# EAGLE library part 74*244 (library gost_micro)
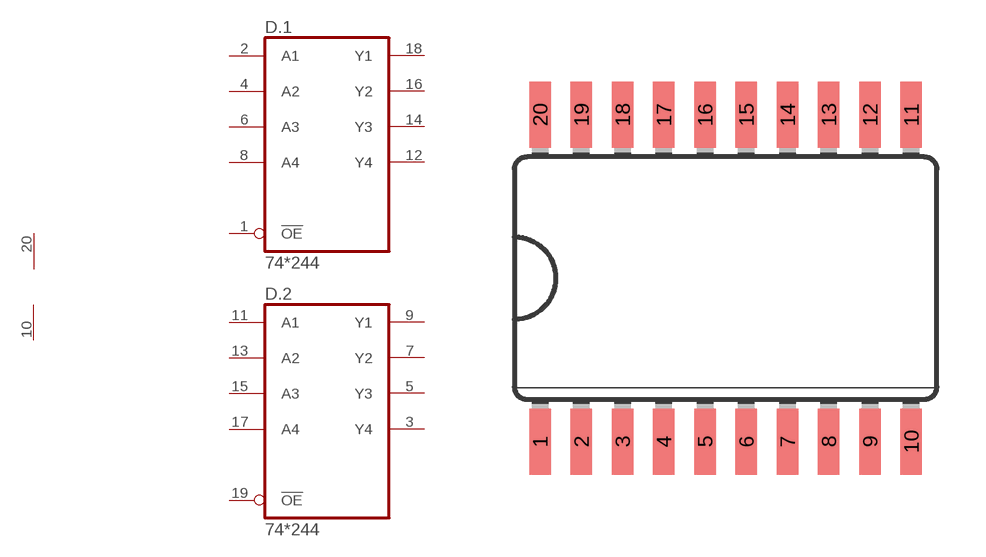
[diagram p21: symbol with the pads of SO20L; footprint SO20L]

Designator prefix D; gates .1=74*244 .2=74*244 .P=PWR+-

## 74AC244D, 74HC244D, 74HCT244D  [SO20L]
1  .1:!OE  in
2  .1:A1  in
3  .2:Y4  hiz
4  .1:A2  in
5  .2:Y3  hiz
6  .1:A3  in
7  .2:Y2  hiz
8  .1:A4  in
9  .2:Y1  hiz
10  .P:V-  pwr
11  .2:A1  in
12  .1:Y4  hiz
13  .2:A2  in
14  .1:Y3  hiz
15  .2:A3  in
16  .1:Y2  hiz
17  .2:A4  in
18  .1:Y1  hiz
19  .2:!OE  in
20  .P:V+  pwr

## Footprint SO20L (pad centres in mm)
Small Outline Package
smd 0.66 x 2.032: 1 -5.715,-5.029; 2 -4.445,-5.029; 3 -3.175,-5.029; 4 -1.905,-5.029; 5 -0.635,-5.029; 6 0.635,-5.029; 7 1.905,-5.029; 8 3.175,-5.029; 9 4.445,-5.029; 10 5.715,-5.029; 11 5.715,5.029; 12 4.445,5.029; 13 3.175,5.029; 14 1.905,5.029; 15 0.635,5.029; 16 -0.635,5.029; 17 -1.905,5.029; 18 -3.175,5.029; 19 -4.445,5.029; 20 -5.715,5.029